# EAGLE library part YC164 (library seniorDesignXO)
Yageo Resistor Array motherboard serial resistance for cables headed offboard
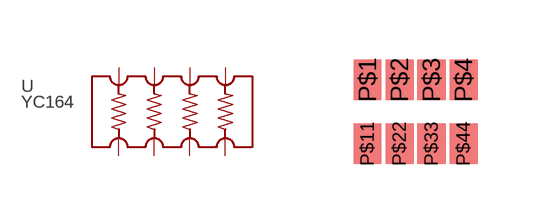
[diagram p0: symbol with the pads of YC164; footprint YC164]

Designator prefix -

## YC164  [YC164]
P$1  1  pas
P$2  2  pas
P$3  3  pas
P$4  4  pas
P$11  11  pas
P$22  22  pas
P$33  33  pas
P$44  44  pas

## Footprint YC164 (pad centres in mm)
smd 0.7 x 1: P$1 -1.2,0.8; P$2 -0.4,0.8; P$3 0.4,0.8; P$4 1.2,0.8; P$11 -1.2,-0.8; P$22 -0.4,-0.8; P$33 0.4,-0.8; P$44 1.2,-0.8